# Altium footprint library 电源芯片.PcbLib: 17 footprints (part 1 of 2)
Each footprint in its own frame and in the unit in brackets; x right, y up, seen from the top. Pads: shape width x height; smd on the part's side, far side on the other; paste and mask are expansions set on the pad; w line width, h text height; cw(c..) or ccw(c..) is an arc to the next point about the centre after c.
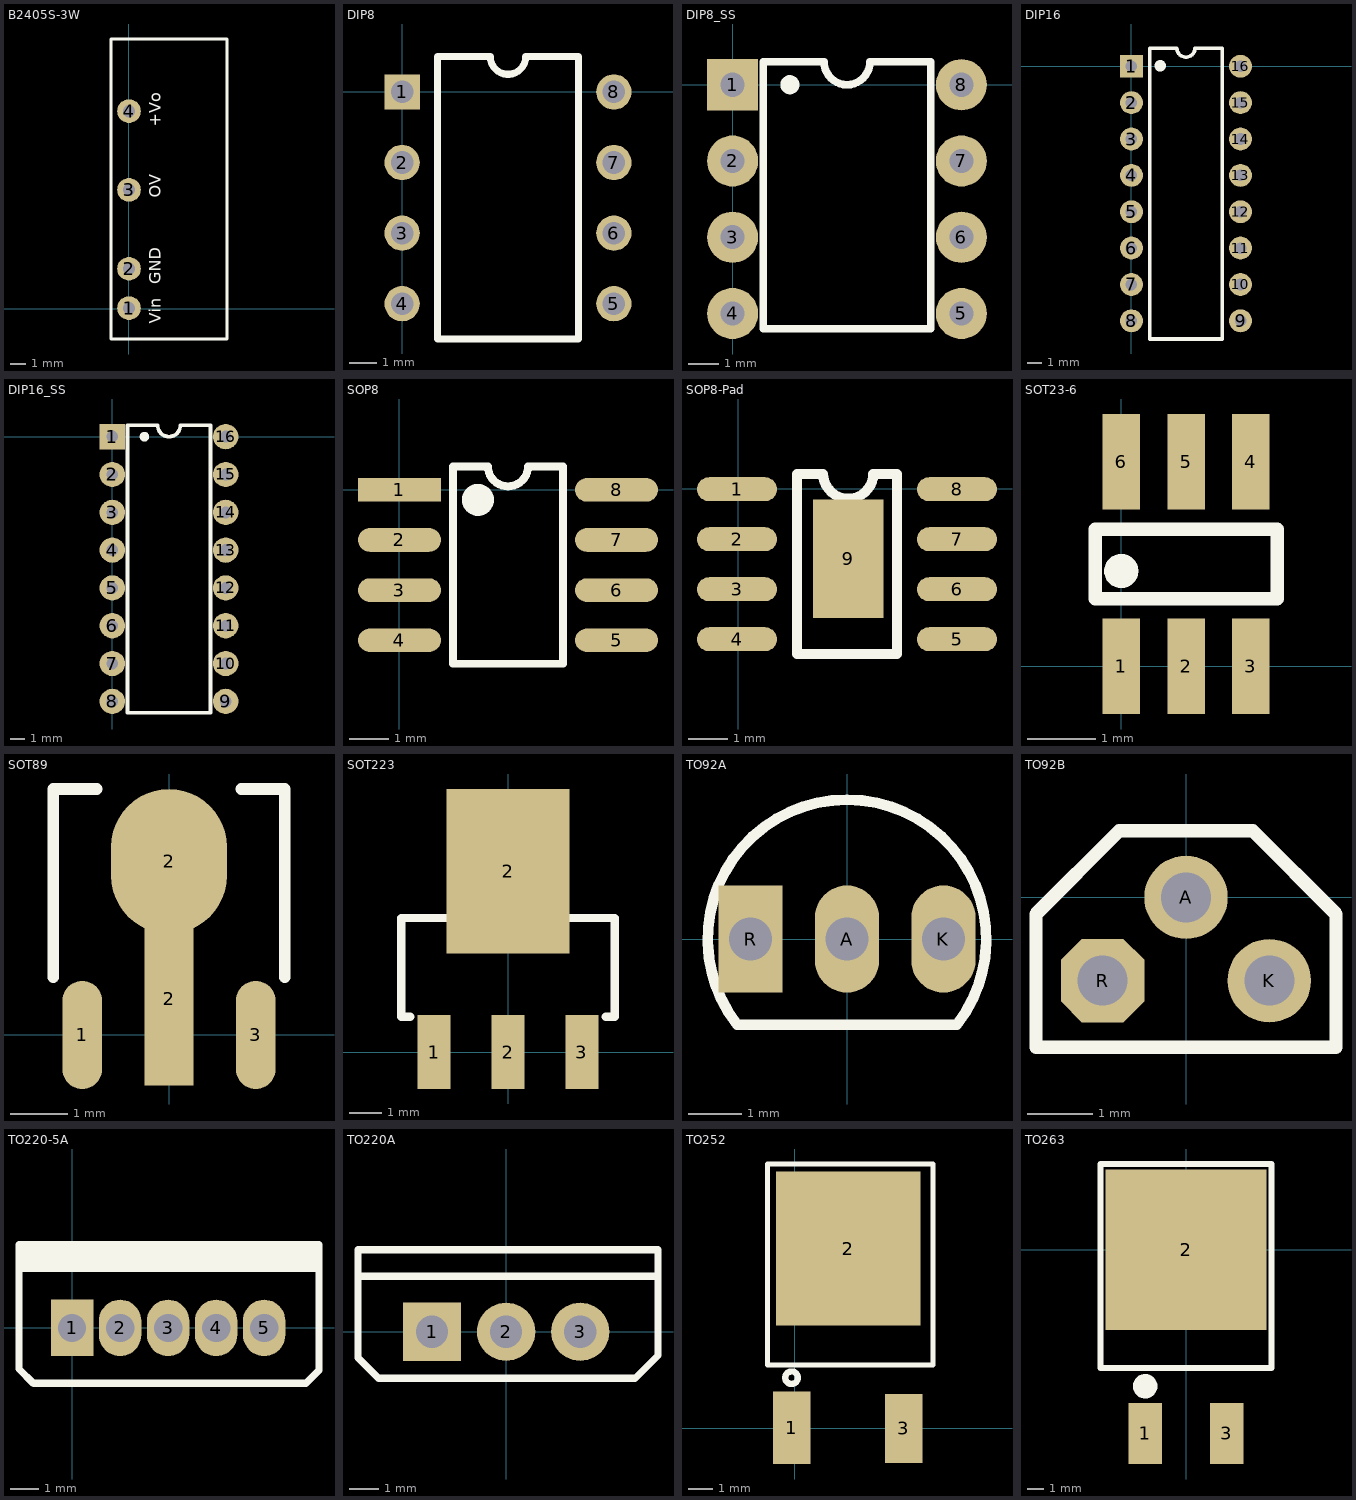
[diagram p0: the footprints below, top view; thin cyan lines are the x and y axes]

## B2405S-3W [mil]
pads (4):
  round 60 hole 31.5: 1(1,2) 2(1,102) 3(1,302) 4(1,502)
Top Overlay:
  lines w8: -45,-76.35 250,-76.35 250,685 -45,685 -45,-76.35
  text "GND" at 81,62 h30
  text "Vin" at 81,-38 h30
  text "OV" at 81,282 h30
  text "+Vo" at 81,462 h30

## DIP8 [mil]
pads (8):
  rect 50x50 hole 32: 1(0,0)
  round 50 hole 32: 2(0,-100) 3(0,-200) 4(0,-300) 5(300,-300) 6(300,-200) 7(300,-100) 8(300,0)
Top Overlay:
  lines w10: 50,-350 250,-350 250,50 175,50 cw(c150,50) 125,50 50,50 50,-350
3D body: height 200, standoff -137.8, extent -4.92,-359.96 304.92,69.96

## DIP8_SS [mm] "DIP8-SMD Socket"
pads (8):
  rect 1.7x1.7 hole 0.8: 1(0,0)
  round 1.7 hole 0.8: 2(0,-2.54) 3(0,-5.08) 4(0,-7.62) 5(7.62,-7.62) 6(7.62,-5.08) 7(7.62,-2.54) 8(7.62,0)
Top Overlay:
  circle w0.381: c1.905,0 r0.127
  lines w0.254: 1.016,-8.128 6.604,-8.128 6.604,0.762 4.572,0.762 cw(c3.81,0.762) 3.81,0 cw(c3.81,0.762) 3.048,0.762 1.016,0.762 1.016,-8.128
3D body: height 4.95, standoff -2.95, extent -1.19,-9 8.81,1.38
3D body: height 7.7, standoff 0, extent -0.115,-8.51 7.735,0.89

## DIP16 [mm]
pads (16):
  rect 1.6x1.6 hole 0.813: 1(0,0)
  round 1.6 hole 0.813: 2(0,-2.54) 3(0,-5.08) 4(0,-7.62) 5(0,-10.16) 6(0,-12.7) 7(0,-15.24) 8(0,-17.78) 9(7.627,-17.78) 10(7.62,-15.24) 11(7.62,-12.7) 12(7.62,-10.16) 13(7.62,-7.62) 14(7.62,-5.08) 15(7.62,-2.54) 16(7.62,0)
Top Overlay:
  circle w0.5: c2.014,0.035 r0.15
  lines w0.254: 1.27,-19.05 1.27,1.27 3.175,1.27 ccw(c3.81,1.27) 4.445,1.27 6.35,1.27 6.35,-19.05 1.27,-19.05
3D body: height 5.1, standoff -3.3, extent -0.119,-18.763 7.751,1.237

## DIP16_SS [mm] "DIP16-SMD Socket"
pads (16):
  rect 1.7x1.7 hole 0.8: 1(0,0)
  round 1.7 hole 0.8: 2(0,-2.54) 3(0,-5.08) 4(0,-7.62) 5(0,-10.16) 6(0,-12.7) 7(0,-15.24) 8(0,-17.78) 9(7.62,-17.78) 10(7.62,-15.24) 11(7.62,-12.7) 12(7.62,-10.16) 13(7.62,-7.62) 14(7.62,-5.08) 15(7.62,-2.54) 16(7.62,0)
Top Overlay:
  circle w0.381: c2.159,0 r0.127
  lines w0.254: 1.016,-18.542 1.016,0.762 3.048,0.762 ccw(c3.81,0.762) 3.81,0 ccw(c3.81,0.762) 4.572,0.762 6.604,0.762 6.604,-18.542 1.016,-18.542
3D body: height 5.25, standoff -2.95, extent -1.171,-19.14 8.81,1.36
3D body: height 7.5, standoff -0.1, extent -0.21,-18.54 7.83,0.76

## SOP8 [mm]
pads (8):
  rect 2.1x0.6 smd: 1(0,0)
  oval 2.1x0.6 smd: 2(0,-1.27) 3(0,-2.54) 4(0,-3.81) 5(5.5,-3.81) 6(5.5,-2.54) 7(5.5,-1.27) 8(5.5,0)
Top Overlay:
  circle w0.5: c1.988,-0.254 r0.155
  lines w0.2: 1.353,0.595 1.353,-4.405 4.147,-4.405 4.147,0.595
  lines w0.203: 1.353,0.595 2.242,0.595 ccw(c2.75,0.595) 2.75,0.087 ccw(c2.75,0.595) 3.258,0.595 4.147,0.595
3D body: height 1.9, standoff 0, extent -0.209,-4.445 5.797,0.555

## SOP8-Pad [mil]
pads (9):
  oval 80x24 smd: 1(-1.24,-0.45) 2(-1.24,-50.45) 3(-1.24,-100.45) 4(-1.24,-150.45) 5(218.76,-150.45) 6(218.76,-100.45) 7(218.76,-50.45) 8(218.76,-0.45)
  rect 70.87x118.11 smd: 9(110,-70)
Top Overlay:
  lines w10: 58.76,-165 158.76,-165 158.76,15 135,15 cw(c110,15) 85,15 58.76,15 58.76,-165
3D body: height 74.8, standoff 0.03, extent -8.22,-176.85 228.22,20

## SOT23-6 [mm]
pads (6):
  rect 0.55x1.4 smd: 1(0,0) 2(0.95,0) 3(1.9,0) 4(1.9,3) 5(0.95,3) 6(0,3)
Top Overlay:
  circle w0.25: c0,1.397 r0.125
  lines w0.2: -0.381,0.992 2.286,0.992 2.286,2.008 -0.381,2.008 -0.381,0.992
3D body: height 1.15, standoff -0.03, extent -0.559,0.121 2.441,2.927

## SOT89 [mil]
pads (4):
  oval 27.56x74.8 smd: 1(-60,0) 3(60,0)
  rect 34x120 smd: 2(0,25)
  oval 80x100 smd: 2(0,120)
Top Overlay:
  lines w8: -80,40 -80,170 -50,170 ; 50,170 80,170 80,40
3D body: height 59.45, standoff 0, extent -88.58,-12.99 88.59,156.3

## SOT223 [mil]
pads (4):
  rect 40x90 smd: 1(-90,0) 2(0,0) 3(90,0)
  rect 150x200 smd: 2(0,220)
Top Overlay:
  lines w10: -119,43 -130,43 -130,163 130,163 130,43 119,43
3D body: height 64.96, standoff -0.74, extent -129.9,-30.12 126,246.12

## TO92A [mm]
pads (3):
  oval 1.2x2 hole 0.8: A(0,0) K(1.8,0)
  rect 1.2x2 hole 0.8: R(-1.8,0)
Top Overlay:
  lines w0.2: -2.049,-1.601 cw(c0,0) 2.049,-1.601 ; -1.99,-1.6 1.99,-1.6
3D body: height 6.58, standoff -4.02, extent -2.3,-1.314 2.3,2.286

## TO92B [mil]
pads (3):
  round 50 hole 30: A(0,0) K(50,-50)
  oct 50x50 hole 30: R(-50,-50)
Top Overlay:
  lines w8: -90,-90 -90,-10 -40,40 40,40 90,-10 90,-90 -90,-90
3D body: height 283.41, standoff -133.91, extent -90.55,-100 90.55,41.54

## TO220-5A [mm]
pads (5):
  rect 1.5x2 hole 1: 1(0,0)
  oval 1.5x2 hole 1: 2(1.7,0) 3(3.4,0) 4(5.1,0) 5(6.8,0)
Top Overlay:
  rectangle: -1.88,2.189 8.74,2.946
  lines w0.254: -1.88,2.102 8.74,2.102 ; -1.88,-1.454 -1.372,-1.962 8.28,-1.962 8.74,-1.502 8.74,1.432 8.74,2.946 -1.88,2.946 -1.88,1.34 -1.88,-1.454
3D body: height 17.5, standoff -4, extent -1.591,-1.742 8.509,2.758

## TO220A [mm] "220，3脚晶体管"
pads (3):
  rect 2x2 hole 1.1: 1(-2.54,0)
  round 2 hole 1.1: 2(0,0) 3(2.54,0)
Top Overlay:
  lines w0.254: -4.928,1.905 5.131,1.905 ; -5.08,-0.889 -4.369,-1.6 4.42,-1.6 5.207,-0.813 5.207,2.819 -5.08,2.819 -5.08,-0.889
3D body: height 18.5, standoff -4, extent -5.08,-1.453 5.22,2.977

## TO252 [mil] "252晶体管"
pads (3):
  rect 60x115 smd: 1(-4.55,0.23)
  rect 230x245 smd: 2(85,285.35)
  rect 60x110 smd: 3(173.45,-0.77)
Top Overlay:
  circle w10: c-5,80 r10
  lines w7.87: -42.95,100 220,100 220,147.56 220,420 -42.95,420 -42.95,147.56 -42.95,100
3D body: height 90.55, standoff 0, extent -40.91,4.58 215,375.42

## TO263 [mm]
pads (3):
  rect 2.1x3.8 smd: 1(-2.54,-11.45) 3(2.54,-11.45)
  rect 10x10 smd: 2(0,0)
Top Overlay:
  circle w0.762: c-2.54,-8.509 r0.381
  lines w0.381: -5.334,-7.366 -5.334,-5.588 -5.334,5.334 5.334,5.334 5.334,-5.588 5.334,-7.366 -5.334,-7.366
3D body: height 4.5, standoff 0, extent -4.92,-11.049 5.08,3.881